# Altium footprint library Thesis_Testboard_V1I1.PcbLib: 28 footprints (part 1 of 2)
Each footprint in its own frame and in the unit in brackets; x right, y up, seen from the top. Pads: shape width x height; smd on the part's side, far side on the other; paste and mask are expansions set on the pad; w line width, h text height; cw(c..) or ccw(c..) is an arc to the next point about the centre after c.
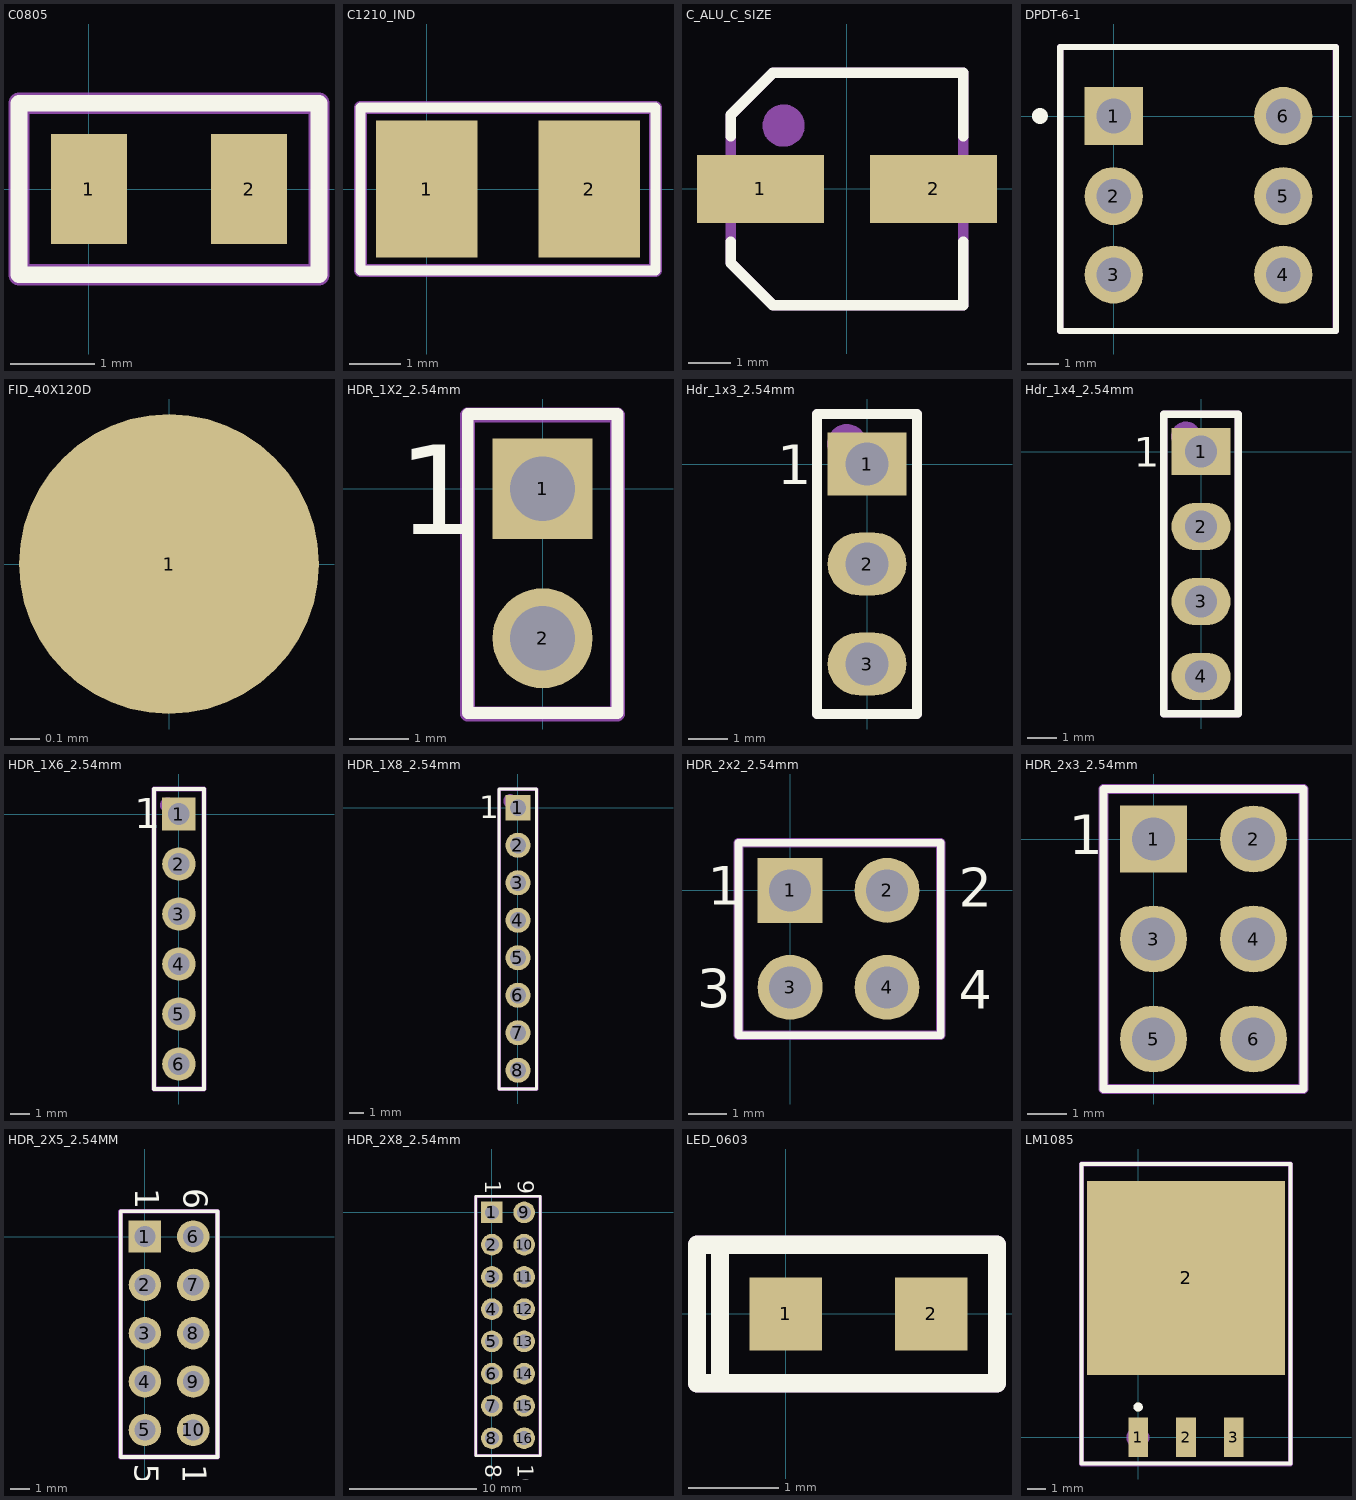
[diagram p0: the footprints below, top view; thin cyan lines are the x and y axes]

## C0805 [mm]
pads (2):
  rect 0.9x1.3 smd: 1(0,0) 2(1.9,0)
Top Overlay:
  lines w0.2: -0.828,-1.016 2.728,-1.016 2.728,1.016 -0.828,1.016 -0.828,-1.016
Mechanical 29:
  lines w0.254: -0.828,-1.016 2.728,-1.016 2.728,1.016 -0.828,1.016 -0.828,-1.016
  text ".Designator" at 0.406,-0.279 h0.6
3D body "CAPC2012X95N EIA 0805.step": height 1.46, standoff 0.51, extent -0.05,-0.6 1.95,0.6
3D body "CAPC2012X95N EIA 0805.step": height 0.96, standoff 0.01, extent -0.05,-0.6 1.95,0.6

## C1210_IND [mm]
pads (2):
  rect 2x2.7 smd: 1(0,0) 2(3.2,0)
Top Overlay:
  lines w0.2: -1.3,-1.6 -1.3,1.6 4.5,1.6 4.5,-1.6 -1.3,-1.6
Mechanical 29:
  lines w0.254: -1.3,-1.6 4.5,-1.6 4.5,1.6 -1.3,1.6 -1.3,-1.6
  text ".Designator" at -0.5,-0.6 h1
3D body: height 2.7, standoff 0, extent 0.3,-1.25 3,1.25
3D body: height 2.7, standoff 0, extent 0,-1.25 0.3,1.25
3D body: height 2.7, standoff 0, extent 3,-1.25 3.3,1.25

## C_ALU_C_SIZE [mm]
pads (2):
  rect 3x1.6 smd: 1(-2.05,0) 2(2.05,0)
Top Overlay:
  lines w0.254: -2.75,-1.25 -2.75,-1.75 -1.75,-2.75 2.75,-2.75 2.75,-1.25 ; -2.75,1.25 -2.75,1.75 -1.75,2.75 2.75,2.75 2.75,1.25
Mechanical 29:
  circle w0.5: c-1.5,1.5 r0.25
  lines w0.254: -2.75,-1.75 -1.75,-2.75 2.75,-2.75 2.75,2.75 -1.75,2.75 -2.75,1.75 -2.75,-1.75
  text ".Designator" at -1.25,-0.75 h1.3
3D body "User Library-capacitor size C.step": height 5.41, standoff -0.01, extent -2.95,-2.65 2.95,2.65

## DPDT-6-1 [mm] "Switch; 6 Leads"
height 8.1
pads (6):
  rect 1.85x1.85 hole 1.1: 1(0,0)
  round 1.85 hole 1.1: 2(0,-2.55) 3(0,-5.05) 4(5.4,-5.05) 5(5.4,-2.55) 6(5.4,0)
Top Overlay:
  circle w0.25: c-2.35,0 r0.125
  lines w0.2: -1.7,-6.85 -1.7,2.2 7.08,2.2 7.08,-6.85 -1.7,-6.85
Mechanical 29:
  lines w0.2: -1.7,-6.85 -1.7,2.2 7.075,2.2 7.075,-6.85 -1.7,-6.85
  text ".Designator" at 2.25,-2.725 h1.52
3D body "TL2201xxYA.stp": height 14.21, standoff -3.49, extent -1.55,-6.75 6.95,2.05

## FID_40X120D [mil]
pads (1):
  round 40 smd paste-40 mask+40: 1(0,0)

## HDR_1X2_2.54mm [mm] "Connector; Header; 2 Position"
pads (2):
  rect 1.7x1.7 hole 1.1: 1(0,0)
  round 1.7 hole 1.1: 2(0,-2.54)
Top Overlay:
  lines w0.2: -1.27,-3.81 1.27,-3.81 1.27,1.27 -1.27,1.27 -1.27,-3.81
  text "1" at -2.45,-0.775 h1.52
Mechanical 29:
  circle w0.4: c-0.425,0.375 r0.202
  lines w0.254: -1.275,-3.825 -1.275,1.25 1.275,1.25 1.275,-3.825 -1.275,-3.825
  text ".Designator" at 0.61,-3.353 h0.76
3D body "68000-x02.stp": height 8.39, standoff -2.4, extent -1.206,-3.81 1.207,1.27

## Hdr_1x3_2.54mm [mm]
pads (3):
  rect 2x1.6 hole 1.1: 1(0,0)
  oval 2x1.6 hole 1.1: 2(0,-2.54) 3(0,-5.08)
Top Overlay:
  lines w0.254: -1.27,-6.35 1.27,-6.35 1.27,1.27 -1.27,1.27 -1.27,-6.35
  text "1" at -2.286,-0.508 h1
Mechanical 29:
  circle w0.5: c-0.508,0.508 r0.254
  lines w0.254: -1.27,-6.35 1.27,-6.35 1.27,1.27 -1.27,1.27 -1.27,-6.35
  text ".Designator" at 0.762,-5.994 h1.52
3D body "68000-x03.stp": height 8.39, standoff -2.4, extent -1.207,-6.35 1.207,1.27

## Hdr_1x4_2.54mm [mm]
pads (4):
  rect 2x1.6 hole 1.1: 1(0,0)
  oval 2x1.6 hole 1.1: 2(0,-2.54) 3(0,-5.08) 4(0,-7.62)
Top Overlay:
  lines w0.254: -1.27,-8.89 -1.27,1.27 1.27,1.27 1.27,-8.89 -1.27,-8.89
  text "1" at -2.286,-0.508 h1
Mechanical 29:
  circle w0.5: c-0.508,0.508 r0.254
  lines w0.254: -1.27,-8.89 -1.27,1.27 1.27,1.27 1.27,-8.89 -1.27,-8.89
  text ".Designator" at 0.66,-7.569 h1.52
3D body "68000-x04.stp": height 8.39, standoff -2.4, extent -1.207,-8.89 1.207,1.27

## HDR_1X6_2.54mm [mm] "Connector; Header; 6 Position"
pads (6):
  rect 1.7x1.7 hole 1.1: 1(0,0)
  round 1.7 hole 1.1: 2(0,-2.54) 3(0,-5.08) 4(0,-7.62) 5(0,-10.16) 6(0,-12.7)
Top Overlay:
  lines w0.2: -1.27,-13.97 -1.27,1.27 1.27,1.27 1.27,-13.97 -1.27,-13.97
  text "1" at -2.275,-0.725 h1.52
Mechanical 29:
  circle w0.4: c-0.575,0.45 r0.182
  lines w0.254: -1.27,1.27 -1.27,-13.97 1.27,-13.97 1.27,1.27 -1.225,1.27
  text ".Designator" at 0.7,-6.975 h1.52
3D body "68000-x06.stp": height 8.39, standoff -2.4, extent -1.207,-13.97 1.207,1.27

## HDR_1X8_2.54mm [mm] "Connector; Header; 8 Position"
pads (8):
  rect 1.7x1.7 hole 1.1: 1(0,0)
  round 1.7 hole 1.1: 2(0,-2.54) 3(0,-5.08) 4(0,-7.62) 5(0,-10.16) 6(0,-12.7) 7(0,-15.24) 8(0,-17.78)
Top Overlay:
  lines w0.2: -1.27,-19.05 1.27,-19.05 1.27,1.27 -1.27,1.27 -1.27,-19.05
  text "1" at -2.625,-0.7 h1.52
Mechanical 29:
  circle w0.508: c-0.525,0.45 r0.215
  lines w0.254: -1.275,-19.05 -1.275,1.25 1.275,1.25 1.275,-19.025 1.25,-19.05 -1.275,-19.05
  text ".Designator" at 0.625,-9.325 h1.52
3D body "68000-x08.stp": height 8.39, standoff -2.4, extent -1.206,-19.05 1.207,1.27

## HDR_2x2_2.54mm [mm]
pads (4):
  rect 1.7x1.7 hole 1.1: 1(0,0)
  round 1.7 hole 1.1: 2(2.54,0) 3(0,-2.54) 4(2.54,-2.54)
Top Overlay:
  lines w0.2: -1.35,-3.8 -1.35,1.25 3.95,1.25 3.95,-3.8 -1.35,-3.8
  text "4" at 4.42,-3.099 h1
  text "3" at -2.438,-3.073 h1
  text "2" at 4.42,-0.432 h1
  text "1" at -2.159,-0.381 h1
Mechanical 29:
  circle w0.508: c-0.381,0.381 r0.127
  lines w0.254: -1.35,-3.8 3.95,-3.8 3.95,1.25 -1.35,1.25 -1.35,-3.8
  text ".Designator" at 1.702,-3.124 h0.76
3D body "67996-x04.stp": height 7.76, standoff -3.04, extent -1.235,-3.688 3.845,1.138

## HDR_2x3_2.54mm [mm]
pads (6):
  rect 1.7x1.7 hole 1.1: 1(0,0)
  round 1.7 hole 1.1: 2(2.54,0) 3(0,-2.54) 4(2.54,-2.54) 5(0,-5.08) 6(2.54,-5.08)
Top Overlay:
  lines w0.2: 0.635,1.27 3.81,1.27 3.81,-6.35 -1.27,-6.35 -1.27,1.27 1.905,1.27
  text "1" at -2.159,-0.381 h1
Mechanical 29:
  circle w0.508: c-0.381,0.381 r0.127
  lines w0.254: -1.27,-6.35 -1.27,1.27 3.81,1.27 3.81,-6.35 -1.27,-6.35
  text ".Designator" at 2.032,-3.937 h1.52
3D body "67996-x06.stp": height 7.76, standoff -3.04, extent -1.138,-6.35 3.688,1.27

## HDR_2X5_2.54MM [mm] "Connector; Header; 5x2 Position"
pads (10):
  rect 1.7x1.7 hole 1.1: 1(0,0)
  round 1.7 hole 1.1: 2(0,-2.54) 3(0,-5.08) 4(0,-7.62) 5(0,-10.16) 6(2.54,0) 7(2.54,-2.54) 8(2.54,-5.08) 9(2.54,-7.62) 10(2.54,-10.16)
Top Overlay:
  lines w0.2: -1.27,-11.575 -1.27,1.325 3.81,1.325 3.81,-11.575 -1.27,-11.575
  text "6" at 2.032,2.54 h1.27
  text "10" at 2,-11.95 h1.27
  text "5" at -0.525,-11.925 h1.27
  text "1" at -0.508,2.54 h1.27
Mechanical 29:
  circle w0.4: c-0.4,0.4 r0.2
  lines w0.254: -1.275,-11.575 3.81,-11.575 3.81,1.325 -1.275,1.325 -1.275,-11.575
  text ".Designator" at 2.05,-6.45 h1.52
3D body "67996-x10.stp": height 7.76, standoff -3.04, extent -1.138,-11.48 3.688,1.22

## HDR_2X8_2.54mm [mm] "Connector; Header; 8x2 Position"
pads (16):
  rect 1.7x1.7 hole 1.1: 1(0,0)
  round 1.7 hole 1.1: 2(0,-2.54) 3(0,-5.08) 4(0,-7.62) 5(0,-10.16) 6(0,-12.7) 7(0,-15.24) 8(0,-17.78) 9(2.54,0) 10(2.54,-2.54) 11(2.54,-5.08) 12(2.54,-7.62) 13(2.54,-10.16) 14(2.54,-12.7) 15(2.54,-15.24) 16(2.54,-17.78)
Top Overlay:
  lines w0.2: -1.27,-19.15 -1.27,1.27 3.81,1.27 3.81,-19.15 -1.27,-19.15
  text "16" at 2.032,-19.812 h1.27
  text "8" at -0.508,-19.812 h1.27
  text "1" at -0.508,2.54 h1.27
  text "9" at 2.032,2.54 h1.27
Mechanical 29:
  circle w0.5: c-0.275,0.3 r0.237
  lines w0.254: -1.275,-19.15 3.8,-19.15 3.8,1.25 -1.275,1.25 -1.275,-19.15
  text ".Designator" at 1.75,-10.125 h1.52
3D body "67996-x16.stp": height 7.76, standoff -3.04, extent -1.138,-19.05 3.688,1.27

## LED_0603 [mm]
pads (2):
  rect 0.8x0.8 smd: 1(0,0) 2(1.6,0)
Top Overlay:
  lines w0.2: -0.724,-0.762 -0.978,-0.762 -0.978,0.762 -0.724,0.762 ; -0.724,-0.762 2.324,-0.762 2.324,0.762 -0.724,0.762 ; -0.724,-0.762 -0.724,0.762
Mechanical 29:
  lines w0.2: -0.724,-0.762 -0.724,0.762 -0.978,0.762 ; -0.978,0.762 -0.978,-0.762 2.324,-0.762 2.324,0.762 -0.978,0.762
  text ".Designator" at -0.216,-0.254 h0.6
3D body "User Library-LED SMD 0603 super red.step": height 0.66, standoff 0.01, extent -0.05,-0.4 1.65,0.4
3D body: height 0.7, standoff 0.5, extent 0.6,-0.2 1,0.2

## LM1085 [mm] "D2-PAK; 3 Leads; Body 14.4 (inc. leads) x 10.4 mm (LxW max)"
height 4.65
pads (4):
  rect 1.05x2.1 smd: 1(0,0) 2(2.54,0) 3(5.08,0)
  rect 10.5x10.3 smd: 2(2.54,8.45)
Top Overlay:
  circle w0.25: c0,1.6 r0.125
  lines w0.2: -3.01,-1.4 8.09,-1.4 8.09,-0.95 8.09,13.5 8.09,14.5 -3.01,14.5 -3.01,13.5 -3.01,-0.95 -3.01,-1.4
Mechanical 29:
  circle w0.6: c-0.01,-0.025 r0.305
  lines w0.254: -3.01,-1.425 -3.01,14.5 8.09,14.5 8.09,-1.425 -3.01,-1.425
  text ".Designator" at 1.365,6.05 h1.52
3D body "KTT0003B.stp": height 4.54, standoff 0, extent -2.54,-0.872 7.62,14.368